# Altium schematic symbol library Semi.SchLib: 3 symbols
Pins are listed as number, name and electrical type; pins without a type are passive.

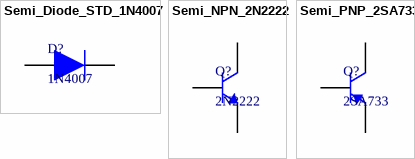
[diagram p0: symbols Semi_Diode_STD_1N4007 to Semi_PNP_2SA733]

## Semi_Diode_STD_1N4007
designator D?, comment 1N4007
General Purpose Rectifiers; Rating: 1A; Type: Generic; Package: DO-41; Value: 1N4007
footprint DO-41
footprint SMA-DO214AC
pins: A Anode, K Cathode

## Semi_NPN_2N2222
designator Q?, comment 2N2222
Rating: 100hfe; Type: NPN; Package: TO-92; Value: 2N2222
footprint TO-92
pins: 1 E, 2 B, 3 C

## Semi_PNP_2SA733
designator Q?, comment 2SA733
Rating: 200hfe; Type: PNP; Package: SOT-23; Value: 2SA733
footprint SOT-23
pins: 1 B, 2 E, 3 C